# EAGLE library part M16C/26A(48PIN) (library renesas_mcu)
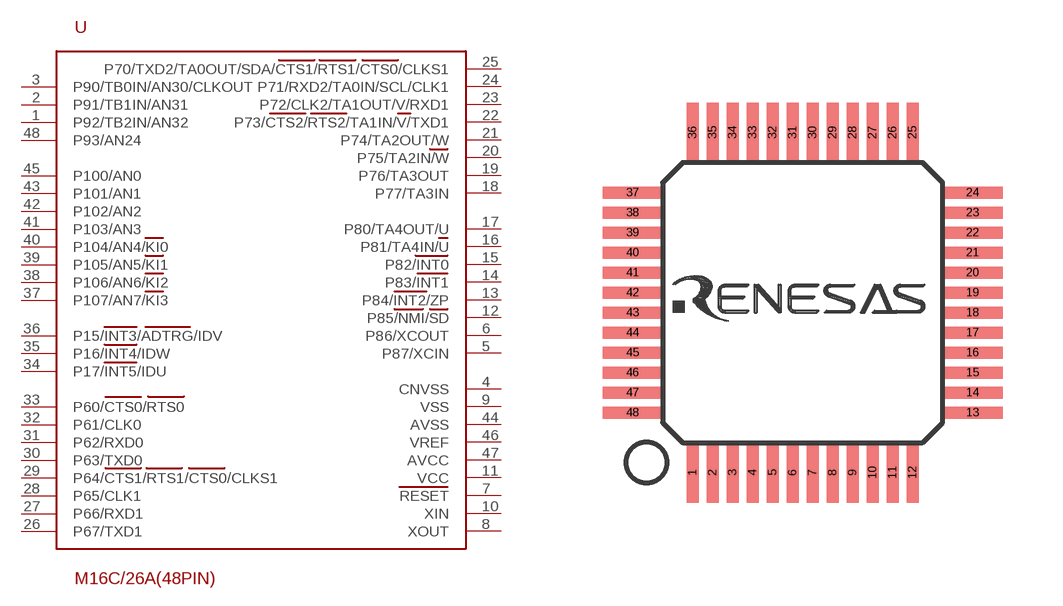
[diagram p84: symbol with the pads of 48P6Q-A; footprint 48P6Q-A]

Designator prefix -

## M16C/26A(48PIN)  [48P6Q-A]
1  P92/TB2IN/AN32
2  P91/TB1IN/AN31
3  P90/TB0IN/AN30/CLKOUT
4  CNVSS
5  P87/XCIN
6  P86/XCOUT
7  RESET
8  XOUT
9  VSS
10  XIN
11  VCC
12  P85/NMI/SD
13  P84/INT2/ZP
14  P83/INT1
15  P82/INT0
16  P81/TA4IN/U
17  P80/TA4OUT/U
18  P77/TA3IN
19  P76/TA3OUT
20  P75/TA2IN/W
21  P74/TA2OUT/W
22  P73/CTS2/RTS2/TA1IN/V/TXD1
23  P72/CLK2/TA1OUT/V/RXD1
24  P71/RXD2/TA0IN/SCL/CLK1
25  P70/TXD2/TA0OUT/SDA/CTS1/RTS1/CTS0/CLKS1
26  P67/TXD1
27  P66/RXD1
28  P65/CLK1
29  P64/CTS1/RTS1/CTS0/CLKS1
30  P63/TXD0
31  P62/RXD0
32  P61/CLK0
33  P60/CTS0/RTS0
34  P17/INT5/IDU
35  P16/INT4/IDW
36  P15/INT3/ADTRG/IDV
37  P107/AN7/KI3
38  P106/AN6/KI2
39  P105/AN5/KI1
40  P104/AN4/KI0
41  P103/AN3
42  P102/AN2
43  P101/AN1
44  AVSS
45  P100/AN0
46  VREF
47  AVCC
48  P93/AN24

## Footprint 48P6Q-A (pad centres in mm)
smd 0.3 x 1.5: 1 -2.95,-4.35; 2 -2.45,-4.35; 3 -1.95,-4.35; 4 -1.45,-4.35; 5 -0.95,-4.35; 6 -0.45,-4.35; 7 0.05,-4.35; 8 0.55,-4.35; 9 1.05,-4.35; 10 1.55,-4.35; 11 2.05,-4.35; 12 2.55,-4.35; 25 2.55,4.15; 26 2.05,4.15; 27 1.55,4.15; 28 1.05,4.15; 29 0.55,4.15; 30 0.05,4.15; 31 -0.45,4.15; 32 -0.95,4.15; 33 -1.45,4.15; 34 -1.95,4.15; 35 -2.45,4.15; 36 -2.95,4.15
smd 1.5 x 0.3: 13 4.05,-2.85; 14 4.05,-2.35; 15 4.05,-1.85; 16 4.05,-1.35; 17 4.05,-0.85; 18 4.05,-0.35; 19 4.05,0.15; 20 4.05,0.65; 21 4.05,1.15; 22 4.05,1.65; 23 4.05,2.15; 24 4.05,2.65; 37 -4.45,2.65; 38 -4.45,2.15; 39 -4.45,1.65; 40 -4.45,1.15; 41 -4.45,0.65; 42 -4.45,0.15; 43 -4.45,-0.35; 44 -4.45,-0.85; 45 -4.45,-1.35; 46 -4.45,-1.85; 47 -4.45,-2.35; 48 -4.45,-2.85